# Altium footprint library VioletofSun.PcbLib: 319 footprints (part 4 of 20)
Each footprint in its own frame and in the unit in brackets; x right, y up, seen from the top. Pads: shape width x height; smd on the part's side, far side on the other; paste and mask are expansions set on the pad; w line width, h text height; cw(c..) or ccw(c..) is an arc to the next point about the centre after c.
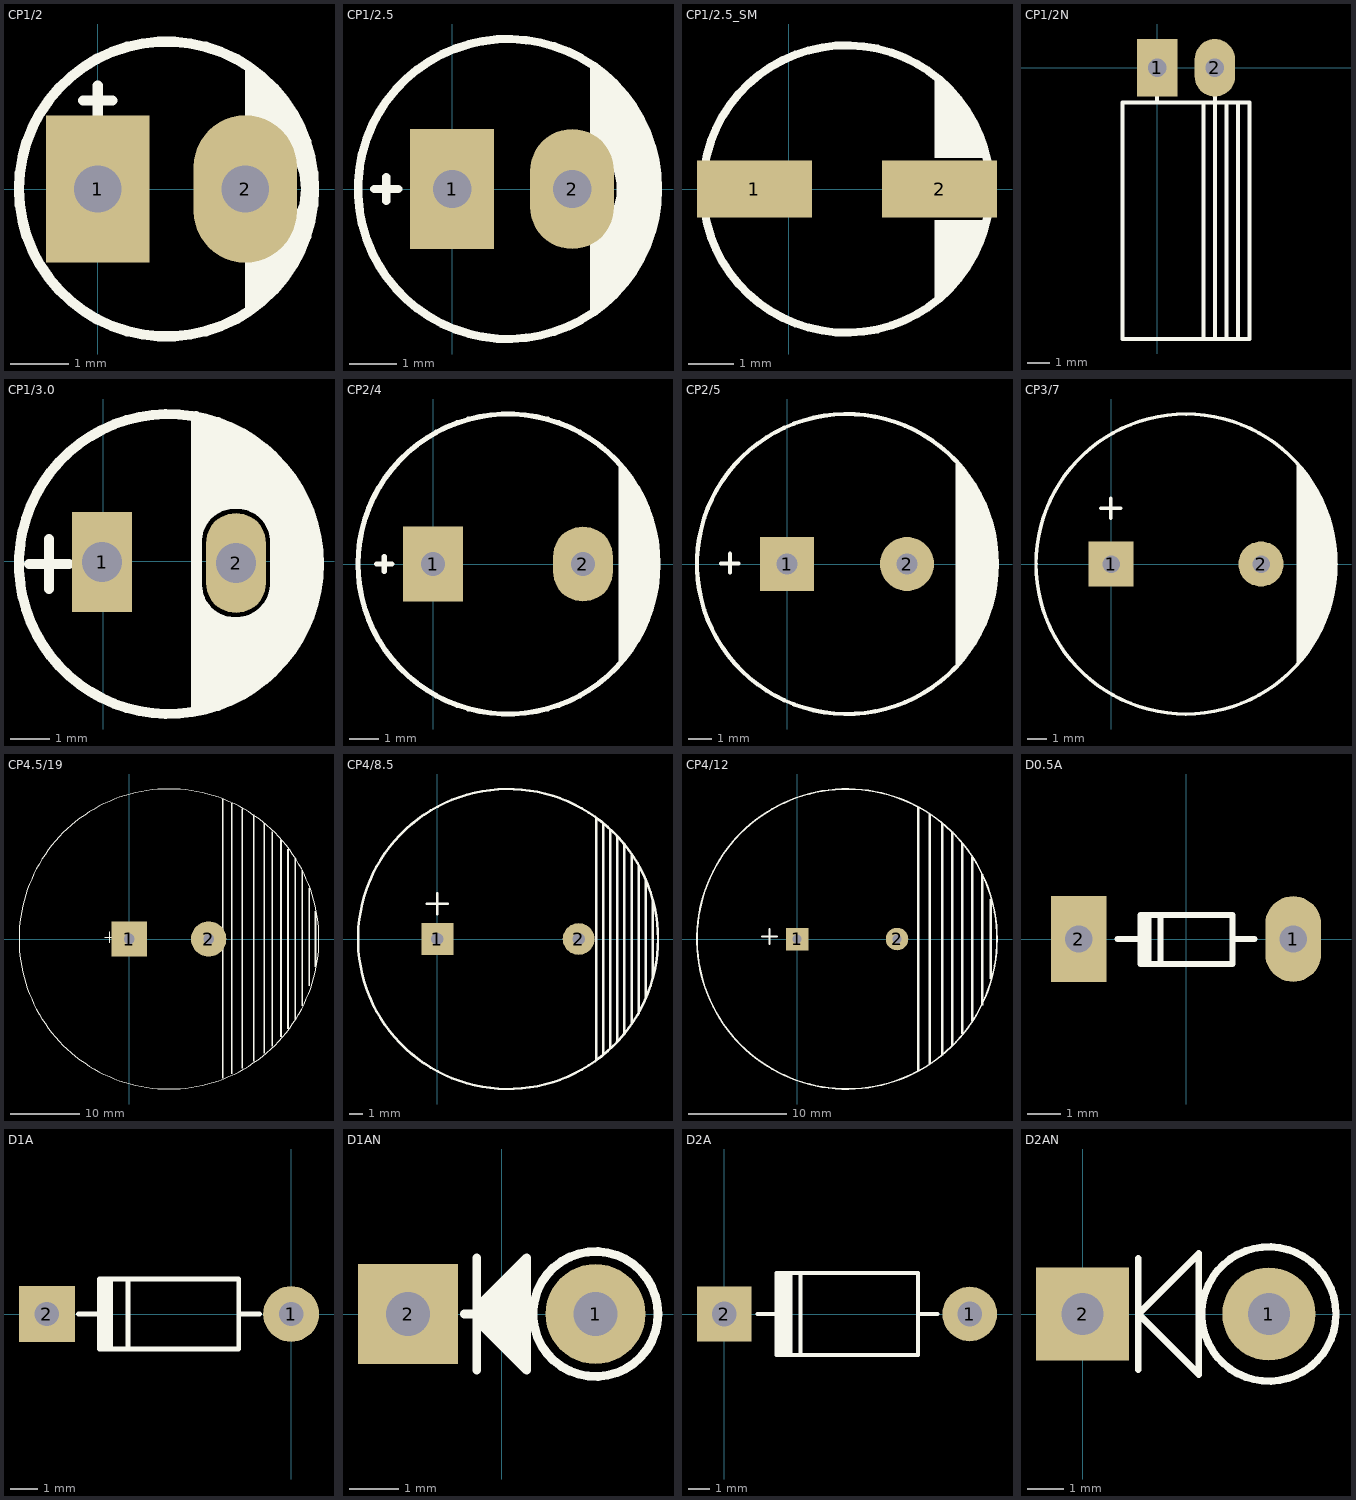
[diagram p3: the footprints below, top view; thin cyan lines are the x and y axes]

## CP1/2 [mil] "Tu hoa < 22uF/16>50V"
height 300
pads (2):
  rect 70x100 hole 32: 1(0,0)
  oval 70x100 hole 32: 2(100,0)
Top Overlay:
  circle w7: c46.58,0 r100
  region: 100,84 100,38 112,36 122,32 129,27 134,19 137,10 138,0 137,-10 134,-17 129,-24 123,-31 117,-35 107,-38 100,-38 100,-85 108,-78 120,-69 128,-59 137,-44 144,-19 146,9 139,40 127,60 110,79
  lines w7: -10,60 10,60 ; 0,50 0,70
3D body: height 296.28, standoff -128.81, extent -54.43,-98.85 144.43,100

## CP1/2.5 [mil] "Tu hoa 33 >100 uF,50V, 220uF/16V,25V"
height 300
pads (2):
  rect 70x100 hole 32: 1(0,0)
  oval 70x100 hole 32: 2(100,0)
Top Overlay:
  circle w7: c46.58,0 r125
  region: 115,105 115,36 122,31 129,25 133,20 135,15 137,5 137,-6 135,-14 132,-19 128,-24 124,-28 120,-31 115,-34 115,-107 124,-99 139,-86 152,-69 167,-36 171,-15 171.58,0 167,30 153,67 131,93
  lines w7: -65,0 -45,0 ; -55,-10 -55,-5 -55,5 -55,10
3D body: height 421.54, standoff -759.57, extent -76,-124.03 172.03,124

## CP1/2.5_SM [mil] "Tu hoa SMD 33 >100 uF,50V, 220uF/16V,25V"
height 100
pads (2):
  rect 100x50 smd: 1(-30,0) 2(131,0)
Top Overlay:
  circle w7: c50,0 r125
  region: 127,98 127,27 172,27 173,9 170,-26 169.75,-27 127,-27 127,-98 141,-86 156,-67 170,-38 175,-19 175,18 170,37 162,58 146,82
  lines w7: -65,0 -45,0 ; -55,-10 -55,-5 -55,5 -55,10

## CP1/2N [mil] "Tu hoa < 22uF/16>50V"
height 300
pads (2):
  rect 70x100 hole 32: 1(0,0)
  oval 70x100 hole 32: 2(100,0)
Top Overlay:
  lines w7: 0,-60 0,-45 ; 80,-470 80,-60 ; 100,-470 100,-60 100,-45 ; 120,-470 120,-60 ; 140,-470 140,-60 ; -60,-470 -60,-60 160,-60 160,-470 -60,-470
3D body: height 199.43, standoff -136.22, extent -60,-378.48 138.85,-11.52

## CP1/3.0 [mil]
pads (2):
  rect 60x100 hole 40: 1(-1,-1)
  oval 60x100 hole 40: 2(133,-2)
Top Overlay:
  circle w10: c66,-3 r150
  region: 93,146 93,37 121,58 143,58 165,42 174,-3 166,-43 141,-62 106,-53 92,-36 93,-150 152,-128 208,-60 216,16 185,93 139,129
  lines w10: -74,-3 -34,-3 ; -54,-28 -54,22 ; 93,-147 93,145 ; 94,-27 94,22 cw(c131.5,19.5) 131.01,57.08 ; 94,-25 ccw(c131.5,-23.5) 133,-61 ccw(c133.5,-22.5) 172,-23 ; 131,57 cw(c134,19) 172,22 ; 172,-30 172,25
3D body: height 475.89, standoff -724.41, extent -90,-161.48 224.96,153.48

## CP2/4 [mil] "Tu hoa 1000uF/16V/25V"
height 400
pads (2):
  rect 80x100 hole 32: 1(0,0)
  oval 80x100 hole 32: 2(200,0)
Top Overlay:
  circle w7: c100,0 r200
  region: 248,133 248,-134 262,-117 274,-97 284,-81 293,-55 299,-21 298,21 296,46 281,85 258,122
  lines w7: -75,0 -55,0 ; -65,-10 -65,10

## CP2/5 [mil] "Tu hoa 1000uF/25V,50V"
height 600
pads (2):
  rect 90x90 hole 35: 1(0,0)
  round 90 hole 35: 2(200,0)
Top Overlay:
  circle w7: c100,0 r250
  region: 281,174 281,-175 300,-149 301,-151 318,-124 334,-90 349,-29 350,0 348,34 341,70 321,116
  lines w7: -110,1 -81,1 ; -95,-14 -95,17
3D body: height 981.64, standoff -750.16, extent -146.13,-241.06 346,251.06

## CP3/7 [mil] "Tu hoa 4700uF/25V"
height 600
pads (2):
  rect 90x90 hole 35: 1(0,0)
  round 90 hole 35: 2(300,0)
Top Overlay:
  circle w7: c150,0 r300
  region: 425,112 433,96 442,79 447,39 450,-9 449,-34 442,-69 429,-115 397,-171 382,-191 371,-203 371,200 384.5,182.5 395,168 408,153
  lines w7: -21,112 19,112 ; -1,92 -1,132

## CP4.5/19 [mil] "Tu hoa 10,000uF/63V"
height 600
pads (2):
  rect 200x200 hole 60: 1(0,0)
  round 200 hole 60: 2(450,0)
Top Overlay:
  circle w7: c225,0 r850
  rectangle: 975,-380 985,390
  rectangle: 935,-455 945,455
  rectangle: 895,-510 905,510
  rectangle: 855,-555 865,560
  rectangle: 805,-610 815,610
  rectangle: 760,-650 770,655
  rectangle: 1015,-265 1025,290
  rectangle: 1050,-160 1060,160
  rectangle: 700,-695 710,705
  rectangle: 635,-735 645,740
  rectangle: 575,-765 585,770
  rectangle: 525,-790 535,795
  lines w7: -140,10 -80,10 ; -110,-20 -110,40

## CP4/8.5 [mil] "Tu hoa 4700uF/50V"
height 600
pads (2):
  rect 90x90 hole 35: 1(0,0)
  round 90 hole 35: 2(400,0)
Top Overlay:
  circle w7: c200,0 r425
  lines w7: -30,100 30,100 ; 0,70 0,130 ; 450,-340 450,340 ; 470,-325 470,325 ; 490,-310 490,310 ; 510,-290 510,290 ; 530,-265 530,265 ; 550,-240 550,240 ; 570,-210 570,205 ; 590,-165 590,170
  lines w8: 610,-110 610,110
3D body: height 984.25, standoff 0, extent -236.14,-438.07 630,428.07

## CP4/12 [mil] "Tu hoa 220uF/450V"
height 600
pads (2):
  rect 90x90 hole 35: 1(0,0)
  round 90 hole 35: 2(400,0)
Top Overlay:
  circle w7: c200,0 r600
  rectangle: 695,-330 705,330
  rectangle: 655,-380 665,385
  rectangle: 615,-425 625,430
  rectangle: 575,-465 585,465
  rectangle: 525,-500 535,500
  rectangle: 480,-530 490,530
  rectangle: 735,-265 745,260
  rectangle: 770,-160 780,160
  lines w7: -140,10 -80,10 ; -110,-20 -110,40

## D0.5A [mil] "Diode muoi, W 80mil, L 300mil"
height 80
pads (2):
  oval 65x100 hole 32: 1(125,0)
  rect 65x100 hole 32: 2(-125,0)
Top Overlay:
  rectangle: -55,-30 -40,25
  lines w7: -80,0 -53,0 ; -30,-29 -30,28 ; 54,0 80,0 ; -53,-29 -53,28 54,28 54,-29 -53,-29
3D body: height 61.22, standoff -50, extent -108.5,-32.96 108.5,32

## D1A [mil] "Diode 1A, W 100mil, L 350mil"
height 100
pads (2):
  round 80 hole 35: 1(0,0)
  rect 80x80 hole 35: 2(-350,0)
Top Overlay:
  rectangle: -275,-50 -255,50
  lines w7: -305,0 -275,0 ; -275,-16 -275,0 ; -275,21 -275,0 ; -234,-50 -234,47 ; -75,0 -45,0 ; -275,0 -275,-50 -75,-50 -75,50 -275,50 -275,0
3D body: height 84.5, standoff -100, extent -386.49,-33 34.49,36

## D1AN [mil] "Diode 1A, W 100mil, L 150mil"
height 100
pads (2):
  round 80 hole 35: 1(75,0)
  rect 80x80 hole 35: 2(-75,0)
Top Overlay:
  circle w7: c75,0 r50
  region: 20,40 20,-40 15,-40 -20,-5 -20,5
  lines w7: -30,0 -20,0 ; -20,-45 -20,45 ; -20,-5 -20,5 20,45 20,-45 -20,-5
3D body: height 330.46, standoff 0, extent -64,-69 104,36

## D2A [mil] "Diode 2A, W 150mil, L 450mil"
height 100
pads (2):
  round 100 hole 45: 1(450,0)
  rect 100x100 hole 45: 2(0,0)
Top Overlay:
  rectangle: 95,-75 125,75
  lines w7: 61,0 96,0 ; 96,-31 96,0 ; 96,32 96,0 ; 140,-75 140,75 ; 355,0 391,0 ; 96,-75 355,-75 355,75 96,75 96,-75
3D body: height 100.5, standoff -100, extent 5,-47 435,54

## D2AN [mil] "Diode 2A, W 150mil, L 450mil"
height 100
pads (2):
  round 100 hole 45: 1(200,0)
  rect 100x100 hole 45: 2(0,0)
Top Overlay:
  circle w8: c200,0 r72.11
  lines w7: 60,-60 60,60 ; 125,50 125,65 60,0 125,-65 125,55
3D body: height 330.46, standoff 0, extent 46,-50 214,55